# EAGLE library part LT3651EUHE-8.4 (library pepin)
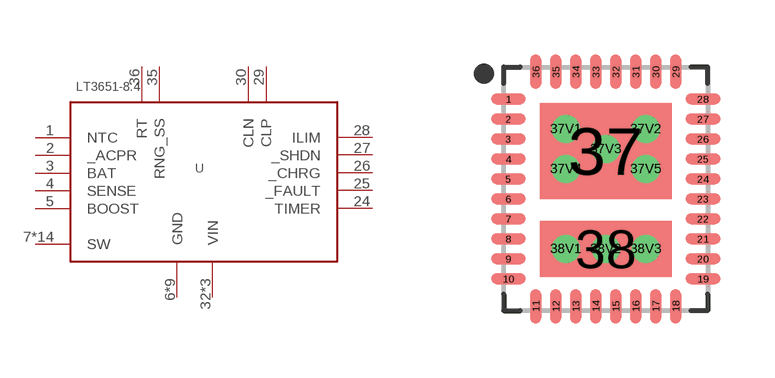
[diagram p1: symbol with the pads of QFN50P500X600X100-36; footprint QFN50P500X600X100-36]

Designator prefix U

## LT3651EUHE-8.4LT3651EUHE-8.4  [QFN50P500X600X100-36]
1  NTC
2  _ACPR  oc
3  BAT
4  SENSE
5  BOOST
6  GND  pwr
7  SW
11  SW
12  SW
13  SW
14  SW
15  SW
16  SW
17  SW
18  SW
22  SW
23  GND  pwr
24  TIMER
25  _FAULT  oc
26  _CHRG  oc
27  _SHDN
28  ILIM
29  CLP
30  CLN
31  GND  pwr
32  VIN  pwr
33  VIN  pwr
34  VIN  pwr
35  RNG_SS
36  RT
37  GND  pwr
37V1  GND  pwr
37V2  GND  pwr
37V3  GND  pwr
37V4  GND  pwr
37V5  GND  pwr
38  SW
38V1  SW
38V2  SW
38V3  SW

## Footprint QFN50P500X600X100-36 (pad centres in mm)
36-QFN, 0.50 mm pitch, 6.00 X 5.00 X 1.00 mm body 36-pin QFN package with 0.50 mm pitch with body size 6.00 X 5.00 X 1.00 mm
smd 0.86 x 0.27: 1 -2.435,2.25; 2 -2.435,1.75; 3 -2.435,1.25; 4 -2.435,0.75; 5 -2.435,0.25; 6 -2.435,-0.25; 7 -2.435,-0.75; 8 -2.435,-1.25; 9 -2.435,-1.75; 10 -2.435,-2.25; 19 2.435,-2.25; 20 2.435,-1.75; 21 2.435,-1.25; 22 2.435,-0.75; 23 2.435,-0.25; 24 2.435,0.25; 25 2.435,0.75; 26 2.435,1.25; 27 2.435,1.75; 28 2.435,2.25
smd 0.27 x 0.86: 11 -1.75,-2.935; 12 -1.25,-2.935; 13 -0.75,-2.935; 14 -0.25,-2.935; 15 0.25,-2.935; 16 0.75,-2.935; 17 1.25,-2.935; 18 1.75,-2.935; 29 1.75,2.935; 30 1.25,2.935; 31 0.75,2.935; 32 0.25,2.935; 33 -0.25,2.935; 34 -0.75,2.935; 35 -1.25,2.935; 36 -1.75,2.935
smd 3.3 x 2.4: 37 0,0.95
drill 0.2: 37V1 -1,1.5; 37V2 1,1.5; 37V3 0,1; 37V4 -1,0.5; 37V5 1,0.5; 38V1 -1,-1.5; 38V2 0,-1.5; 38V3 1,-1.5
smd 3.3 x 1.4: 38 0,-1.5